# Altium footprint library HDR_1X4_5.08.PcbLib: 1 footprints
Each footprint in its own frame and in the unit in brackets; x right, y up, seen from the top. Pads: shape width x height; smd on the part's side, far side on the other; paste and mask are expansions set on the pad; w line width, h text height; cw(c..) or ccw(c..) is an arc to the next point about the centre after c.
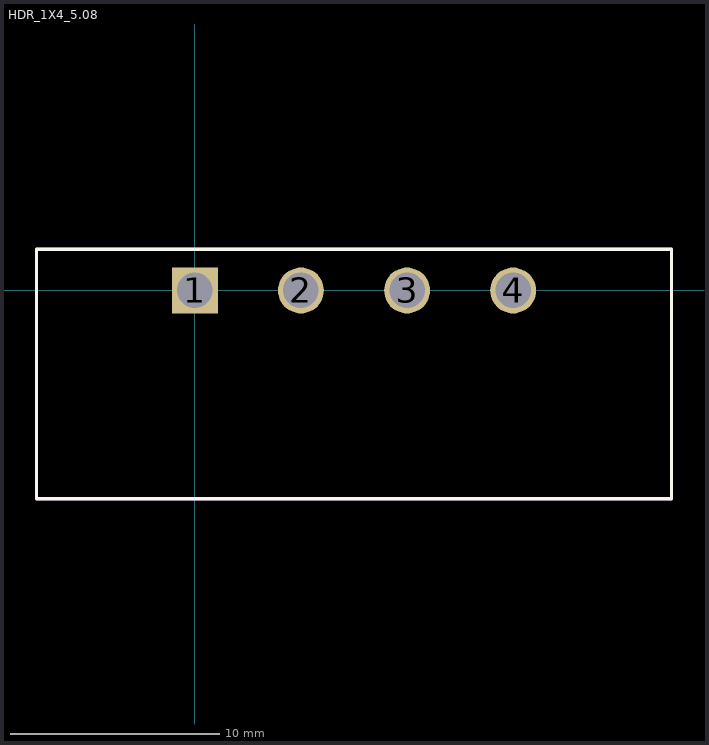
[diagram p0: the footprint, top view; thin cyan lines are the x and y axes]

## HDR_1X4_5.08 [mm] "Pitch3.5mm Body 25.4X12mm High 8.6mm"
height 8.6
pads (4):
  rect 2.2x2.2 hole 1.7: 1(0,0)
  round 2.2 hole 1.7: 2(5.08,0) 3(10.16,0) 4(15.24,0)
Top Overlay:
  lines w0.152: -7.594,-9.974 22.834,-9.974 22.834,1.974 -7.594,1.974 -7.594,-9.974
Mechanical 13:
  lines w0.1: -7.62,-10 22.86,-10 22.86,2 -7.62,2 -7.62,-10
Mechanical 15:
  lines w0.1: -7.62,-10 -7.62,2 22.86,2 22.86,-10 -7.62,-10
3D body: height 8.6, standoff -4.4, extent -7.62,-10.069 22.86,1.936